# EAGLE library part AXK3S50035 (library m-pad-2.1)
Matsushita P6 NARROW-PITCH CONNECTORS FOR PC BOARDS 50Pin Socket NARROW-PITCH (0.6mm) CONNECTORS P6 SERIES FEATURES The product lineup consists of the low profile of: - 3 mm - 4 mm - 5 mm - 6 mm - 7 mm - 8 mm - 9 mm APPLICATIONS Small portable equipment, laptop computers, video equipment, radio communication, cellular telephones, etc. Please send any comments to: messi@users.sourceforge.net
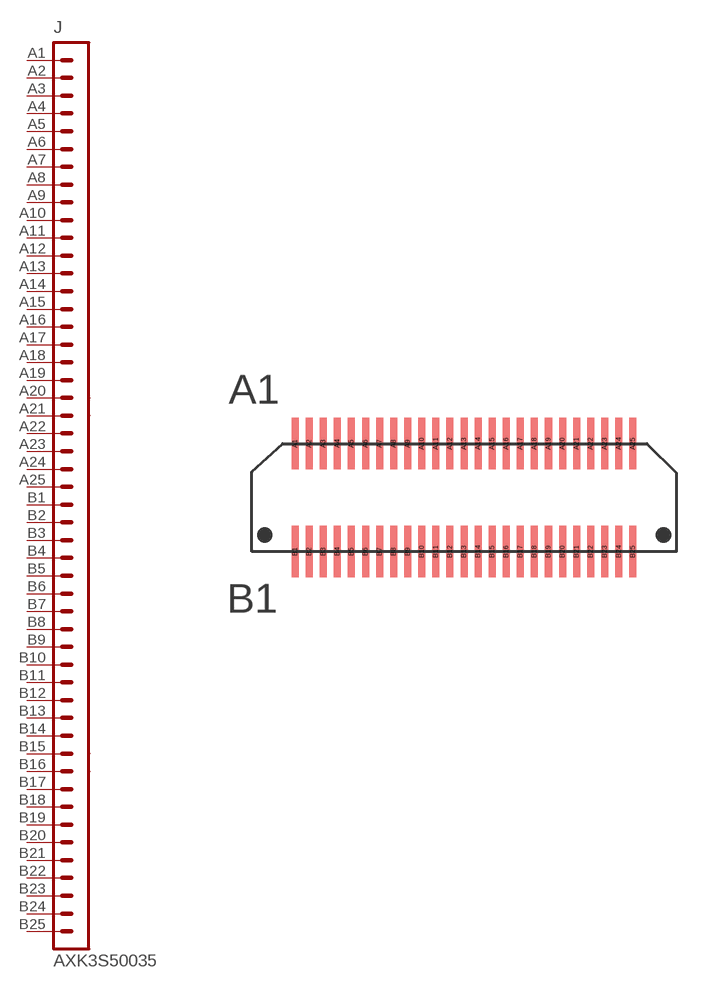
[diagram p3: symbol with the pads of AXK3S50035; footprint AXK3S50035]

Designator prefix J

## AXK3S50035  [AXK3S50035]
A1  1  pas
A2  2  pas
A3  3  pas
A4  4  pas
A5  5  pas
A6  6  pas
A7  7  pas
A8  8  pas
A9  9  pas
A10  10  pas
A11  11  pas
A12  12  pas
A13  13  pas
A14  14  pas
A15  15  pas
A16  16  pas
A17  17  pas
A18  18  pas
A19  19  pas
A20  20  pas
A21  21  pas
A22  22  pas
A23  23  pas
A24  24  pas
A25  25  pas
B1  26  pas
B2  27  pas
B3  28  pas
B4  29  pas
B5  30  pas
B6  31  pas
B7  32  pas
B8  33  pas
B9  34  pas
B10  35  pas
B11  36  pas
B12  37  pas
B13  38  pas
B14  39  pas
B15  40  pas
B16  41  pas
B17  42  pas
B18  43  pas
B19  44  pas
B20  45  pas
B21  46  pas
B22  47  pas
B23  48  pas
B24  49  pas
B25  50  pas

## Footprint AXK3S50035 (pad centres in mm)
Matsushita NARROW-PITCH CONNECTORS FOR PC BOARDS 50Pin Socket NARROW-PITCH (0.6mm) CONNECTORS P6 SERIES FEATURES The product lineup consists of the low profile of: - 3 mm - 4 mm - 5 mm - 6 mm - 7 mm - 8 mm - 9 mm APPLICATIONS Small portable equipment, laptop computers, video equipment, radio communication, cellular telephones, etc. Please send any comments to: messi@users.sourceforge.net
smd 0.3 x 2.2: A1 -7.2,2.3; A2 -6.6,2.3; A3 -6,2.3; A4 -5.4,2.3; A5 -4.8,2.3; A6 -4.2,2.3; A7 -3.6,2.3; A8 -3,2.3; A9 -2.4,2.3; A10 -1.8,2.3; A11 -1.2,2.3; A12 -0.6,2.3; A13 0,2.3; A14 0.6,2.3; A15 1.2,2.3; A16 1.8,2.3; A17 2.4,2.3; A18 3,2.3; A19 3.6,2.3; A20 4.2,2.3; A21 4.8,2.3; A22 5.4,2.3; A23 6,2.3; A24 6.6,2.3; A25 7.2,2.3; B1 -7.2,-2.3; B2 -6.6,-2.3; B3 -6,-2.3; B4 -5.4,-2.3; B5 -4.8,-2.3; B6 -4.2,-2.3; B7 -3.6,-2.3; B8 -3,-2.3; B9 -2.4,-2.3; B10 -1.8,-2.3; B11 -1.2,-2.3; B12 -0.6,-2.3; B13 0,-2.3; B14 0.6,-2.3; B15 1.2,-2.3; B16 1.8,-2.3; B17 2.4,-2.3; B18 3,-2.3; B19 3.6,-2.3; B20 4.2,-2.3; B21 4.8,-2.3; B22 5.4,-2.3; B23 6,-2.3; B24 6.6,-2.3; B25 7.2,-2.3